# Altium integrated library NX3225GD-8MHZ-STD-CRA-3.IntLib: 1 symbol
Pins are listed as number, name and electrical type; pins without a type are passive.

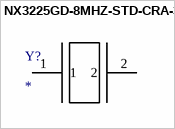
[diagram p0: symbol NX3225GD-8MHZ-STD-CRA-3]

## NX3225GD-8MHZ-STD-CRA-3
designator Y?
CRYSTAL 8.0000MHZ 8PF SMD / Manufacturer PN: NX3225GD-8MHZ-STD-CRA-3
footprint NX3225GD-8MHZ-STD-CRA-3
pins: 1, 2